# Altium footprint library CAP_CAN_H_12.5MM_SMT.PcbLib: 1 footprints
Each footprint in its own frame and in the unit in brackets; x right, y up, seen from the top. Pads: shape width x height; smd on the part's side, far side on the other; paste and mask are expansions set on the pad; w line width, h text height; cw(c..) or ccw(c..) is an arc to the next point about the centre after c.
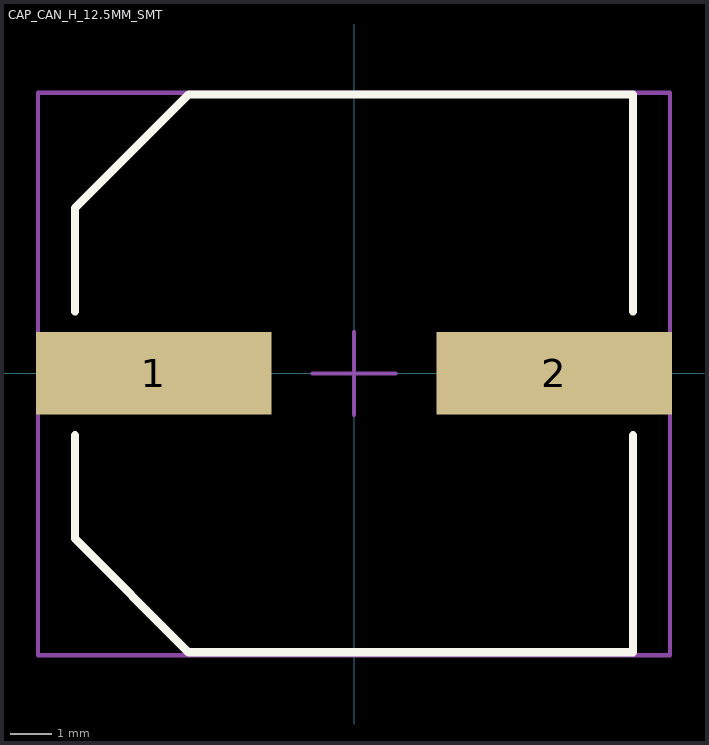
[diagram p0: the footprint, top view; thin cyan lines are the x and y axes]

## CAP_CAN_H_12.5MM_SMT [mm] "CAP SMT CAN H 12.5MM dia x 13.5 height"
height 13.5
pads (2):
  rect 5.7x2 smd mask+0.102: 1(-4.85,0) 2(4.85,0)
Top Overlay:
  lines w0.2: -6.75,-1.5 -6.75,-4 -4,-6.75 6.75,-6.75 6.75,-1.5 ; -6.75,1.5 -6.75,4 -4,6.75 6.75,6.75 6.75,1.5
Part Outline:
  lines w0.1: -1,0 1,0 ; 0,-1 0,1 ; -7.65,-6.82 -7.65,6.79 7.65,6.79 7.65,-6.82 -7.65,-6.82
3D body: height 13.6, standoff 0.1, extent -6.238,-6.201 6.238,6.25